# Altium footprint library 105-DFN.PcbLib: 1 footprints
Each footprint in its own frame and in the unit in brackets; x right, y up, seen from the top. Pads: shape width x height; smd on the part's side, far side on the other; paste and mask are expansions set on the pad; w line width, h text height; cw(c..) or ccw(c..) is an arc to the next point about the centre after c.
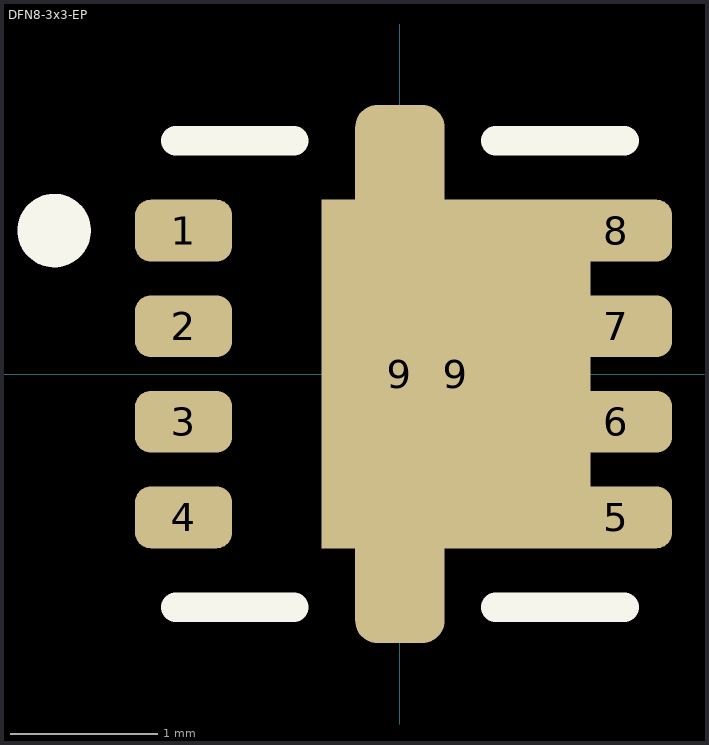
[diagram p0: the footprint, top view; thin cyan lines are the x and y axes]

## DFN8-3x3-EP [mm] "DFN8-3x3-EP/L=3.0mm/W=3.0mm/P=0.65mm-EP"
height 1
pads (10):
  rrect50% 0.66x0.42 smd: 1(-1.47,0.975) 2(-1.47,0.325) 3(-1.47,-0.325) 4(-1.47,-0.975)
  rrect50% 0.762x0.42 smd: 5(1.47,-0.975) 6(1.47,-0.325) 7(1.47,0.325) 8(1.47,0.975)
  rrect50% 0.61x3.658 smd: 9(0,0)
  rect 1.829x2.37 smd: 9(0.381,0)
Top Overlay:
  circle w0.25: c-2.35,0.975 r0.125
  lines w0.2: -1.525,-1.585 -0.72,-1.585 ; -1.525,1.585 -0.72,1.585 ; 0.65,-1.585 1.525,-1.585 ; 0.65,1.585 1.525,1.585
3D body "DFN8-3x3-EP.step": height 0.82, standoff 0, extent -1.612,-1.65 1.739,1.65